# EAGLE library part S6B-PH-SM4-TB (library eric_personal_parts)
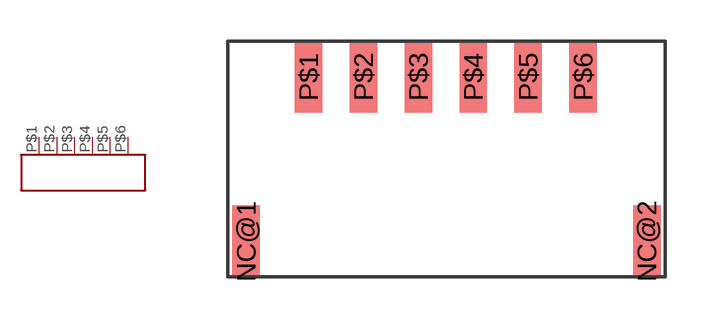
[diagram p10: symbol with the pads of JST-S6B-PH; footprint JST-S6B-PH]

Designator prefix -

## S6B-PH-SM4-TB  [JST-S6B-PH]
P$1  P$1
P$2  P$2
P$3  P$3
P$4  P$4
P$5  P$5
P$6  P$6

## Footprint JST-S6B-PH (pad centres in mm)
smd 1 x 2.6: NC@1 0.675,1.3; NC@2 15.275,1.3; P$1 2.95,7.3; P$2 4.95,7.3; P$3 6.95,7.3; P$4 8.95,7.3; P$5 10.95,7.3; P$6 12.95,7.3